# Altium schematic symbol library Inverter_Libraries.SchLib: 43 symbols
Pins are listed as number, name and electrical type; pins without a type are passive.

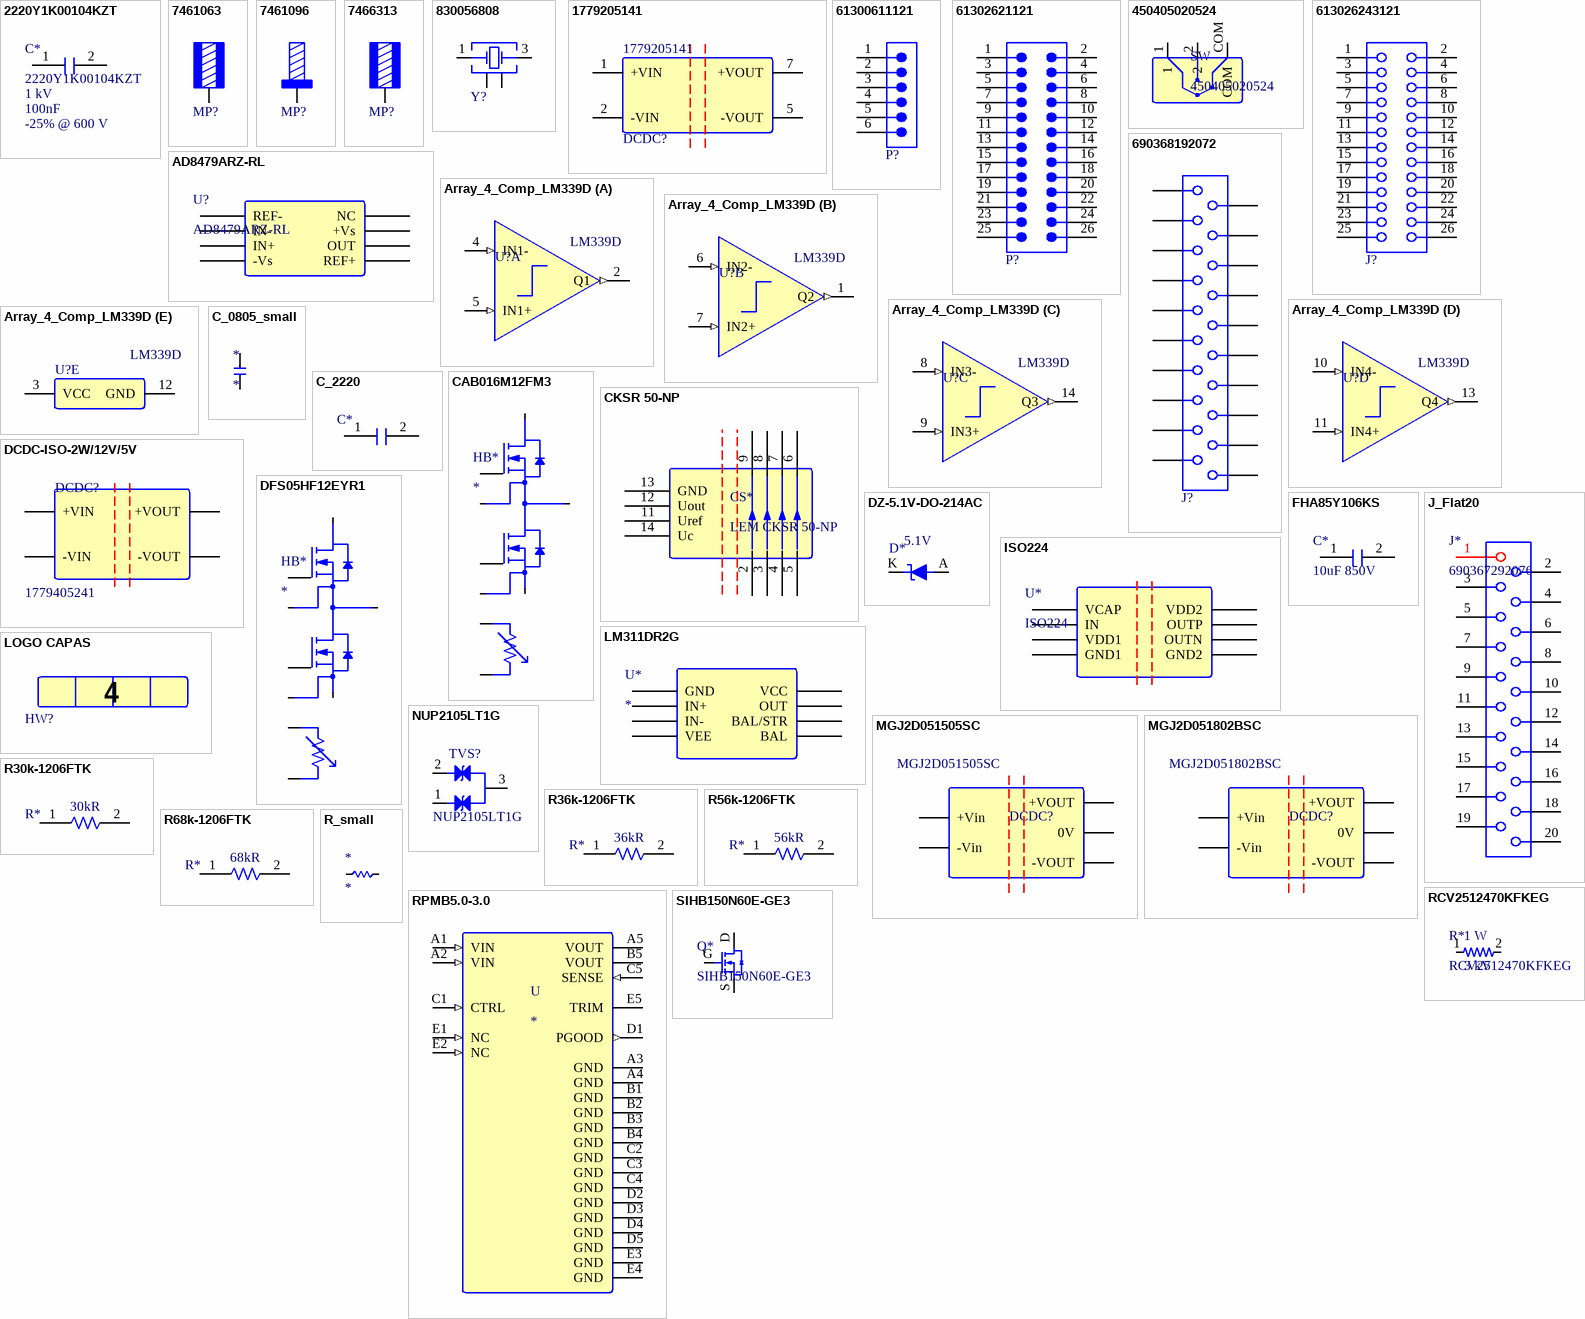
[diagram p0: symbols 2220Y1K00104KZT to SIHB150N60E-GE3]

## 2220Y1K00104KZT
designator C*  value 100nF  DC bias: -25% @ 600 V  Voltage rating: 1 kV
100NF 2220 Case Size 1000V Ceram; Manufacturer: Knowles Syfer; Footprint: 2220; Supplier: Digikey; Supplier Part Number: 1608-2220Y1K00104KZTCT-ND; RoHS: No; Category: Ceramic Capacitors; Stock: 650; Pricing: 1=5,53, 10=4,753, 50=4,3112, 100=3,5595 (USD); Manufacturer Part Number: 2220Y1K00104KZT
footprint CAP_2220
pins: 1, 2

## 7461063
designator MP?, comment M4  (value not drawn)
WP-RATR REDCUBE PRESS-FIT right angled, two-rows, L9W9H14mm, M4, 160A; Manufacturer Part Number: 7461063; Manufacturer: Wurth Elektronik; Surface: Tin; ComponentLink1Description: Website Link; ComponentLink1URL: https://www.we-online.com/redexpert/article/7461063?ad; ComponentLink2Description: Datasheet Link; ComponentLink2URL: https://www.we-online.com/redexpert/spec/7461063?ad; Category: REDCUBE PRESS-FIT; Match Code: WP-RATR; Mount: Press Fit; Operating Temperature Max: 150°C; Operating Temperature Min: -55°C; Packaging: Bulk; Length: 9mm; Width: 9mm; Height: 14mm; Material: Brass; Number of Pins: 8; Rated Current: 160A; Thread Size: M4
footprint 7461063_chemical surface
footprint 7461063_HAL
pins: 1

## 7461096
designator MP?, comment M4 x 6mm  (value not drawn)
WP-SHFU REDCUBE PRESS-FIT with external thread, L7W7H9mm, M4 x 6mm, 130A; Manufacturer Part Number: 7461096; Manufacturer: Wurth Elektronik; Surface: Tin; ComponentLink1Description: Website Link; ComponentLink1URL: https://www.we-online.com/redexpert/article/7461096?ad; ComponentLink2Description: Datasheet Link; ComponentLink2URL: https://www.we-online.com/redexpert/spec/7461096?ad; Category: REDCUBE PRESS-FIT; Match Code: WP-SHFU; Mount: Press Fit; Operating Temperature Max: 150°C; Operating Temperature Min: -55°C; Packaging: Bulk; Length: 7mm; Width: 7mm; Height: 9mm; Material: Brass; Number of Pins: 9; Rated Current: 130A; Thread Length: 6mm; Thread Size: M4
footprint 7461096_HAL
pins: 1

## 7466313
designator MP?, comment M3  (value not drawn)
WP-SMRA REDCUBE SMT Right Angled with pins, M3, 50A; Manufacturer Part Number: 7466313; Manufacturer: Wurth Elektronik; Surface: Tin; ComponentLink1Description: Website Link; ComponentLink1URL: https://www.we-online.com/redexpert/article/7466313?ad; ComponentLink2Description: Datasheet Link; ComponentLink2URL: https://www.we-online.com/redexpert/spec/7466313?ad; Category: REDCUBE SMT; Match Code: WP-SMRA; Mount: Surface Mount; Operating Temperature Max: 150°C; Operating Temperature Min: -55°C; Packaging: Bulk; Height: 7mm; Material: Brass; Rated Current: 50A; Thread Size: M3
footprint 7466313
pins: 1

## 830056808
designator Y?, comment 20MHz  (value not drawn)
WE-XTAL Quartz Crystal, SMT, CFPX-104, 20MHz, +/-20ppm; Manufacturer Part Number: 830056808; Manufacturer: Wurth Elektronik; Frequency Stability: +/-30ppm; Load Capacitance: 18pF; ComponentLink1Description: Website Link; ComponentLink1URL: https://www.we-online.com/redexpert/article/830056808?ad; ComponentLink2Description: Datasheet Link; ComponentLink2URL: https://www.we-online.com/redexpert/spec/830056808?ad; Category: Crystals; Match Code: WE-XTAL; Mount: Surface Mount; Operating Temperature Max: 85°C; Operating Temperature Min: -40°C; Packaging: Tape and Reel; Case/Size Code: CFPX-104; Length: 5mm; Width: 3.2mm; Height: 1mm; Frequency: 20MHz; Frequency Tolerance: +/-20ppm
footprint WE-XTAL_CFPX-104
pins: 1 Crystal, 2 GND & Lid, 3 Crystal, 4 GND & Lid

## 1779205141
designator DCDC?
WPME-FISM Fixed Isolated Module, SIP-7, 5Vin, 5Vout; Manufacturer: Wurth Elektronik; Input Voltage: 5V; Input Voltage Min: 4.5V; Input Voltage Max: 5.5V; Isolation Voltage: 3000V; Output Power: 1W; Manufacturer Part Number: 1779205141; Category: Isolated Converter; Match Code: WPME-FISM; ComponentLink1Description: Website Link; ComponentLink1URL: https://www.we-online.com/redexpert/article/1779205141?ad; ComponentLink2Description: Datasheet Link; ComponentLink2URL: https://www.we-online.com/redexpert/spec/1779205141?ad; Mount: Through Hole; Operating Temperature Max: 105°C; Operating Temperature Min: -40°C; Packaging: Tube; Case/Size Code: SIP-7; Length: 19.65mm; Width: 6mm; Height: 10.16mm; Output Voltage: 5V
footprint 1779205141 (Fixed Isolated Module, SIP-7, body 19.60x7.05mm)
pins: 1 +VIN, 2 -VIN, 5 -VOUT, 7 +VOUT

## 61300611121
designator P?  (value not drawn)
WR-PHD Pin Header, THT, Vertical, pitch 2.54mm, 1 Row, 6P; Manufacturer: Wurth Elektronik; Contact Resistance: 20mOhm; Rated Current: 3A; Working Voltage: 250V; Withstanding Voltage: 500V; Manufacturer Part Number: 61300611121; Category: Board-to-Board Connectors; Match Code: WR-PHD; ComponentLink1Description: Website Link; ComponentLink1URL: https://www.we-online.com/redexpert/article/61300611121?ad; ComponentLink2Description: Datasheet Link; ComponentLink2URL: https://www.we-online.com/redexpert/spec/61300611121?ad; Mount: Through Hole; Operating Temperature Max: 105°C; Operating Temperature Min: -40°C; Packaging: Bag; Gender: Pin Header; Number of Pins: 6; Number of Rows: 1; Orientation: Vertical; Pitch: 2.54mm
footprint 61300611121
pins: 1, 2, 3, 4, 5, 6

## 61302621121
designator P?  (value not drawn)
WR-PHD Pin Header, THT, Vertical, pitch 2.54mm, 2 Row, 26P; Manufacturer: Wurth Elektronik; Contact Resistance: 20mOhm; Rated Current: 3A; Working Voltage: 250V; Withstanding Voltage: 500V; Manufacturer Part Number: 61302621121; Category: Board-to-Board Connectors; Match Code: WR-PHD; ComponentLink1Description: Website Link; ComponentLink1URL: https://www.we-online.com/redexpert/article/61302621121?ad; ComponentLink2Description: Datasheet Link; ComponentLink2URL: https://www.we-online.com/redexpert/spec/61302621121?ad; Mount: Through Hole; Operating Temperature Max: 105°C; Operating Temperature Min: -40°C; Packaging: Bag; Gender: Pin Header; Number of Pins: 26; Number of Rows: 2; Orientation: Vertical; Pitch: 2.54mm
footprint 61302621121
pins: 1, 2, 3, 4, 5, 6, 7, 8, 9, 10, 11, 12, 13, 14, 15, 16, 17, 18, 19, 20, 21, 22, 23, 24, 25, 26

## 450405020524
designator SW
WS-SLSU Mini Slide Switch; Manufacturer: Wurth Electronics; Supplier: Mouser; Supplier Part Number: 710-450405020524; Manufacturer Part Number: 450405020524; RoHS: No; Category: Uncategorized; Stock: 2050; Pricing: 1=1,01, 10=1,01, 50=0,947, 100=0,906, 1000=0,747, 10000=0,746 (USD); ComponentLink1Description: Datasheet; ComponentLink1URL: https://www.we-online.com/components/products/datasheet/450405020524.pdf
footprint 450405020524 (SMT Mini Slide Switch, Same side connection)
pins: 1, 2, COM

## 613026243121
designator J?  (value not drawn)
WR-PHD Socket Header, THT, Angled, pitch 2.54mm, 2 Row, 26P; Manufacturer: Wurth Elektronik; Contact Resistance: 20mΩ; Rated Current: 3A; Working Voltage: 250V; Withstanding Voltage: 500V; ComponentLink1Description: Website Link; ComponentLink1URL: https://www.we-online.com/redexpert/article/613026243121?ad; ComponentLink2Description: Datasheet Link; ComponentLink2URL: https://www.we-online.com/redexpert/spec/613026243121?ad; Manufacturer Part Number: 613026243121; Category: Board-to-Board Connectors; Match Code: WR-PHD; Mount: Through Hole; Operating Temperature Max: 125°C; Operating Temperature Min: -40°C; Packaging: Tray; Gender: Socket Header; Number of Pins: 26; Number of Rows: 2; Orientation: Angled; Pitch: 2.54mm
footprint 613026243121
pins: 1, 2, 3, 4, 5, 6, 7, 8, 9, 10, 11, 12, 13, 14, 15, 16, 17, 18, 19, 20, 21, 22, 23, 24, 25, 26

## 690368192072
designator J?  (value not drawn)
WR-MM Mini Module Connector, Female, THT, with Latch & Polarization, Angled, pitch 2.54mm, 20p; Manufacturer: Wurth Elektronik; Contact Resistance: 10mΩ; Insulation Resistance: 1000MΩ; Rated Current: 1.5A; Working Voltage: 250VAC; Withstanding Voltage: 500VAC; ComponentLink1Description: Website Link; ComponentLink1URL: https://www.we-online.com/redexpert/article/690368192072?ad; ComponentLink2Description: Datasheet Link; ComponentLink2URL: https://www.we-online.com/redexpert/spec/690368192072?ad; Manufacturer Part Number: 690368192072; Category: Board-to-Board Connectors; Match Code: WR-MM; Mount: Through Hole; Operating Temperature Max: 105°C; Operating Temperature Min: -40°C; Packaging: Tube; Length: 30mm; Gender: Female; Number of Pins: 20; Orientation: Angled; Pitch: 2.54mm
footprint 690368192072 (MiniModule Connectors, PCB Type, Female, THT, Angled, 20p)
pins: 1, 2, 3, 4, 5, 6, 7, 8, 9, 10, 11, 12, 13, 14, 15, 16, 17, 18, 19, 20

## AD8479ARZ-RL
designator U?
Operational Amplifier (difference),; Manufacturer: Analog Devices; Package Body Material: Plastic; Throw Configuration: ANALOG CIRCUIT; Neg Supply Voltage-Max (Vsup): -18V; Neg Supply Voltage-Min (Vsup): -2.5V; Neg Supply Voltage-Nom (Vsup): -15V; Channels: 1; Max Supply Voltage: 18V; Min Supply Voltage: 2.5V; Nominal Supply Voltage: 15V; Time @ Peak Reflow Temperature-Max (s): 30s; Supplier: Arrow Electronics; Supplier Part Number: AD8479ARZ-RL; Manufacturer Part Number: AD8479ARZ-RL; RoHS: Yes; Category: Amplifiers - Op Amps, Buffer, Instrumentation; Stock: 5057; Pricing: 1=5,7443, 10=5,6868, 25=5,6304, 100=5,5741, 250=5,5177, 500=5,4625 (USD); Case/Package: SOP; Pins: 8; Package Shape: Rectangular; Terminal Finish: Tin; Min Operating Temperature: -40°C; Max Operating Temperature: 125°C; JESD-609 Code: e3; JESD-30 Code: R-PDSO-G8; Moisture Sensitivity Level: 1; Package Style: SMALL OUTLINEMeter; Peak Reflow Temperature (Cel): 260°C; Surface Mount: Yes; Terminal Form: Gull Wing; Terminal Position: DUAL; Length: 4.9mm; Width: 3.9mm; Height - Seated (Max): 1.75mm; Terminal Pitch: 1.27mm; Temperature Grade: AUTOMOTIVE; Reach SVHC Compliant: Yes; RoHS Compliant: Yes; ComponentLink1URL: https://datasheet.ciiva.com:443/pdfs/VipMasterIC/IC/ANDI/ANDI-S-A0008872860/ANDI-S-A0008872860-1.pdf?src-supplier=IHS+Markit; ComponentLink1Description: https://datasheet.ciiva.com:443/pdfs/VipMasterIC/IC/ANDI/ANDI-S-A0008872860/ANDI-S-A0008872860-1.pdf?src-supplier=IHS+Markit; ComponentLink2URL: https://datasheet.ciiva.com/30008/ad8479-30008102.pdf?src-supplier=Avnet; ComponentLink2Description: https://datasheet.ciiva.com/30008/ad8479-30008102.pdf?src-supplier=Avnet
footprint R_8_ADI
pins: 1 REF-, 2 IN-, 3 IN+, 4 -Vs, 5 REF+, 6 OUT, 7 +Vs, 8 NC

## Array_4_Comp_LM339D
designator U?, comment LM339D
Comparator Quad ±18V/36V 14-Pin SOIC Tube; Manufacturer: Texas Instruments; Number of Channels: 4; Nominal Supply Current: 2mA; Output Current: 20mA; Quiescent Current: 2.5mA; Max Supply Voltage: 30V; Min Supply Voltage: 2V; Min Dual Supply Voltage: 1V; Max Dual Supply Voltage: 15V; Voltage Gain: 106.02dB; Max Supply Current: 500uA; Input Bias Current: 250nA; Output Current per Channel: 6mA; Input Offset Voltage (Vos): 5mV; Response Time: 0.3us; Output Type: TTL; Dual Supply Voltage: 9V; .Creator: DO; Supplier 1: Digi-Key; RoHS: Yes; Category: Amplifiers - Op Amps, Buffer, Instrumentation; Stock 1: 10834; Pricing 1: 1=0,93000, 10=0,83500, 25=0,79240, 100=0,65090, 250=0,60848, 500=0,53774, 1000=0,46725 (USD); Mount: Surface Mount; Case/Package: SOIC; Number of Pins: 14; Contact Plating: Gold; Weight: 0.004318oz; Min Operating Temperature: 0°C; Max Operating Temperature: 70°C; Packaging: Rail/Tube; Package Quantity: 50; Number of Elements: 4; Supply Current: 2mA; Technology: BIPOLAR; Max Input Current: 250nA; Series: LM339; Length: 8.65mm; Width: 3.91mm; Height: 1.58mm; Radiation Hardening: No; REACH SVHC: No SVHC; Lead Free: Lead Free; RoHS Compliant: Yes; ComponentLink1URL: https://datasheet.ciiva.com/15131/getdatasheetpartid-248452-15131099.pdf?src-supplier=Verical; ComponentLink1Description: https://datasheet.ciiva.com/15131/getdatasheetpartid-248452-15131099.pdf?src-supplier=Verical; ComponentLink2URL: https://datasheet.ciiva.com/1483/1831045-1483000.pdf?src-supplier=Element14; ComponentLink2Description: https://datasheet.ciiva.com/1483/1831045-1483000.pdf?src-supplier=Element14; ComponentLink3URL: https://datasheet.ciiva.com/1827/lm139a-1827534.pdf?src-supplier=Digi-Key; ComponentLink3Description: https://datasheet.ciiva.com/1827/lm139a-1827534.pdf?src-supplier=Digi-Key; ComponentLink4URL: https://datasheet.ciiva.com/2970/lm2901-2970484.pdf?src-supplier=Avnet; ComponentLink4Description: https://datasheet.ciiva.com/2970/lm2901-2970484.pdf?src-supplier=Avnet; ComponentLink5URL: https://datasheet.ciiva.com/48712/001010753-da-01-en-ic-quad-diff-comp-lm339d-soic-14-tid-48712470.pdf?src-supplier=Conrad; ComponentLink5Description: https://datasheet.ciiva.com/48712/001010753-da-01-en-ic-quad-diff-comp-lm339d-soic-14-tid-48712470.pdf?src-supplier=Conrad; Supplier Part Number 1: 296-1013-5-ND; ComponentLink6Description: Where buy it; ComponentLink6URL: https://es.rs-online.com/web/p/comparadores/0858411; Manufacturer Part Number: LM339D
footprint Array_4_Amp_LM339D (SOIC, 14-Leads, Body 8,65x3,90mm, Pitch 1,27mm, IPC Medium Density)
part A pins: 2 Q1 (out), 4 IN1- (in), 5 IN1+ (in)
part B pins: 1 Q2 (out), 6 IN2- (in), 7 IN2+ (in)
part C pins: 8 IN3- (in), 9 IN3+ (in), 14 Q3 (out)
part D pins: 10 IN4- (in), 11 IN4+ (in), 13 Q4 (out)
part E pins: 3 VCC (power), 12 GND (power)

## C_0805_small
designator *
footprint C0805FNPC-R
pins: 1, 2

## C_2220
designator C*  (value not drawn)
Voltage rating: 1.2 kV; Footprint: 2220
footprint CAP_2220
pins: 1, 2

## CAB016M12FM3
designator HB*
1200V/16mΩ Half Bridge SiC MOSFET Module; Blocking voltage: 1200 V; Rds(on): 5.5 mOhm .. 28 mOhm; Maximum junction temperature: 175 °C; Isolation voltage: 3.4 kV; Maximum VGSS: +19 V / - 4V; Maximum IDS-ISD: 89 A; NTC resistance @25 ºC: 5 kOhm; NTC B-value @50 ºC: 3375 K; VGS(th): 2.8 V .. 4.8 V; QG: 236 nC; RGint: 2.4 Ohm; Rth(j-c): 0.543 K/W; Vf_diode: 4.9 V .. 5.0 V; ComponentLink1Description: Datasheet; ComponentLink1URL: https://assets.wolfspeed.com/uploads/2023/05/Wolfspeed_CAB016M12FM3_data_sheet.pdf
footprint DFS05HF12EYR1 (1200V/5.5mOhm Half Bridge SiC MOSFET Module)
pins: 1 AC, 2 S2, 3 G2, 4 DC+, 5 DC-, 6 G1, 7 S1, 8 T1, 9 T2

## CKSR 50-NP
designator CS*, comment LEM CKSR 50-NP
Sensor Current Flux 50A AC/DC; Supplier 1: Rs; Manufacturer 1: LEM; Manufacturer Part Number 1: CKSR50-NP; RoHS: Yes; Category: Current Sensors; Stock 1: 84; Pricing 1: 1=15,8, 5=15,33, 10=14,65 (EUR); ComponentLink1URL: https://datasheet.ciiva.com/2812/cksrseries-2812726.pdf?src-supplier=Digi-Key; ComponentLink1Description: https://datasheet.ciiva.com/2812/cksrseries-2812726.pdf?src-supplier=Digi-Key; ComponentLink2URL: https://datasheet.ciiva.com/7992/1639868-7992216.pdf?src-supplier=Element14; ComponentLink2Description: https://datasheet.ciiva.com/7992/1639868-7992216.pdf?src-supplier=Element14; Supplier Part Number 1: 6668214
footprint CKSR 50-NP
pins: 2, 3, 4, 5, 6, 7, 8, 9, 11 Uref, 12 Uout, 13 GND, 14 Uc

## DCDC-ISO-2W/12V/5V
designator DCDC?, comment 1779405241
WPME-FISM Fixed Isolated Module, SIP-7, 10.8-13.2Vin, 5Vout; Manufacturer: Wurth Elektronik; Input Voltage Max: 13.2V; Input Voltage Min: 10.8V; Input Voltage: 12V; Output Voltage: 5V; Isolation Voltage: 4kV; ComponentLink2Description: Datasheet; Height: 10.16mm; Packaging: Tube; Width: 7.05mm; ComponentLink2URL: https://www.we-online.com/catalog/datasheet/1779405141.pdf; Length: 19.65mm; Manufacturer Part Number: 1779405241; ComponentLink1Description: Manufacturer Link; Operating Temperature Max: 105°C; Mount: THT; ComponentLink1URL: http://www.we-online.de; Case/Size Code: SIP-7; Operating Temperature Min: -40°C; Component Type: MagI3C FISM
footprint DCDC2W-ISO/1779405X41 (Isolated Power Module, SIP7, body 19.65x7.05mm)
pins: 1 +VIN, 2 -VIN, 5 -VOUT, 7 +VOUT

## DFS05HF12EYR1
designator HB*
1200V/5.5mΩ Half Bridge SiC MOSFET Module; Blocking voltage: 1200 V; Rds(on): 5.5 mOhm .. 13 mOhm; Maximum junction temperature: 175 °C; Isolation voltage: 3.4 kV; Maximum VGSS: +21 V / -2 V; Maximum IDS-ISD: 150 A; NTC resistance @25 ºC: 5 kOhm; NTC B-value @50 ºC: 3375 K; VGS(th): 2.8 V .. 4.8 V; QG: 520 nC; RGint: 1.9 Ohm; Rth(j-c): 0.12 K/W; Vf_diode: 3.3 V .. 4.0 V; ComponentLink1Description: Datasheet; ComponentLink1URL: https://www.leapers-power.com/action/download?file=/web/uploads/file/20230309/E66B0Y1w3x716fyKzgl84X9Kg38sCV40.pdf
footprint DFS05HF12EYR1 (1200V/5.5mOhm Half Bridge SiC MOSFET Module)
pins: 1 AC, 2 S2, 3 G2, 4 DC+, 5 DC-, 6 G1, 7 S1, 8 T1, 9 T2

## DZ-5.1V-DO-214AC
designator D*, comment Reference Voltage-Nom: 5.1V  (hidden comment: BZG05C5V1-E3-TR)
Zener Diode, 5.1V V(Z), 5.88%, 1.25W, Silicon, Unidirectional, DO-214AC; Manufacturer: Vishay; Manufacturer Part Number: BZG05C5V1-M3-08; Package Body Material: Plastic; Additional Feature: HIGH RELIABILITY; Number of Elements: 1; Test Current: 45mA; Time @ Peak Reflow Temperature-Max (s): 30s; Supplier: Mouser; Supplier Part Number: 78-BZG05C5V1-M3-08; RoHS: Yes; Category: Zener Diodes; Stock: 28077; Pricing: 1=0,38, 10=0,3, 50=0,3, 100=0,179, 1000=0,113, 10000=0,089 (USD); Pins: 2; Diode Element Material: SILICON; Package Shape: Rectangular; Terminal Finish: Tin; Max Operating Temperature: 150°C; JESD-609 Code: e3; Polarity: Unidirectional; Diode Type: ZENER; JESD-30 Code: R-PDSO-C2; Moisture Sensitivity Level: 1; Package Style: SMALL OUTLINEMeter; Peak Reflow Temperature (Cel): 260°C; Max Power Dissipation: 1.25W; Surface Mount: Yes; Technology: ZENER; Terminal Form: C BEND; Terminal Position: DUAL; Voltage Tol-Max: 5.88%; JEDEC-95 Code: DO-214AC; RoHS Compliant: Yes; Reach SVHC Compliant: No; ComponentLink1URL: https://datasheet.ciiva.com:443/pdfs/VipMasterIC/IC/VISH/VISH-S-A0008998108/VISH-S-A0008998108-1.pdf?src-supplier=IHS+Markit; ComponentLink1Description: https://datasheet.ciiva.com:443/pdfs/VipMasterIC/IC/VISH/VISH-S-A0008998108/VISH-S-A0008998108-1.pdf?src-supplier=IHS+Markit; ComponentLink2URL: http://www.vishay.com/docs/86135/bzg05c-m-series.pdf?src-supplier=Digikey; ComponentLink2Description: http://www.vishay.com/docs/86135/bzg05c-m-series.pdf?src-supplier=Digikey
footprint DZ-6.2V-DO-214AC (TSOP, 2-Leads, Body 1,25x1,70mm, Pitch 1,27mm, IPC Low Density)
pins: A, K

## FHA85Y106KS
designator C*, comment 10uF 850V
High Temperature Film Capacitor for Automotive Application
footprint FHA85Y106KS (850V 10uF High Temperature Film Capacitor for Automotive Application)
pins: 1, 2

## ISO224
designator U*
Reinforced isolated amplifier for voltage sensing with ±12-V input 8-SOIC -55 to 125; Manufacturer 1: Texas Instruments; Manufacturer Part Number 1: ISO224ADWVR; Supplier 1: Mouser; RoHS: Yes; Category: Amplifiers - Op Amps, Buffer, Instrumentation; Stock 1: 3377; Pricing 1: 1=13,32, 10=12,25, 50=11,74, 100=10,35, 1000=8,44, 10000=8,44 (USD); ComponentLink1URL: https://www.ti.com/lit/ds/symlink/iso224.pdf?ts=1702215020753&ref_url=https%253A%252F%252Fwww.ti.com%252Fproduct%252Fes-mx%252FISO224; ComponentLink1Description: Datasheet; Supplier Part Number 1: 595-ISO224ADWVR
footprint ISO224
pins: 1 VCAP, 2 IN, 3 VDD1, 4 GND1, 5 GND2, 6 OUTN, 7 OUTP, 8 VDD2

## J_Flat20
designator J*, comment 690367292076
6903 Series 1.27mm; 2.54mm Pitch 20 Way2 Row Straight PCB Socket; Surface Mount; Manufacturer 1: Wurth Electronics; Supplier 1: Rs; Manufacturer Part Number 1: 690367292076; RoHS: Yes; Category: Connectors; Stock 1: 2285; Pricing 1: 5=2,326, 50=2,162, 250=2, 500=1,742, 1000=1,582 (EUR); ComponentLink1URL: https://datasheet.ciiva.com/25617/0900766b811917f0-25617511.pdf?src-supplier=Rs; ComponentLink1Description: https://datasheet.ciiva.com/25617/0900766b811917f0-25617511.pdf?src-supplier=Rs; ComponentLink2URL: https://datasheet.ciiva.com/29130/69036729xx76-29130464.pdf?src-supplier=Digi-Key; ComponentLink2Description: https://datasheet.ciiva.com/29130/69036729xx76-29130464.pdf?src-supplier=Digi-Key; Supplier Part Number 1: 7718102
footprint 690367292076 (MiniModule Connectors, PCB Type, Female, SMT, Vertical, 20p)
pins: 1, 2, 3, 4, 5, 6, 7, 8, 9, 10, 11, 12, 13, 14, 15, 16, 17, 18, 19, 20

## LM311DR2G
designator U*
LM Series 36 V 300 nA Surface Mount Single Comparator - SOIC-8; Manufacturer 1: ON Semiconductor; Manufacturer Part Number 1: LM311DR2G; Supplier 1: Future Electronics; RoHS: Yes; Category: Comparators; Stock 1: 35000; Pricing 1: 2500=0,145, 5000=0,142, 10000=0,139, 12500=0,138, 37500=0,133 (USD); Supplier Part Number 1: 9254327
footprint LM311
pins: 1 GND, 2 IN+, 3 IN-, 4 VEE, 5 BAL, 6 BAL/STR, 7 OUT, 8 VCC

## LOGO CAPAS
designator HW?, comment LOGO CAPAS (4)  (value not drawn)
Logo 4 capas; Id: 0074; Observations: Layers; Checked: False; Type: Logos; Supplier 1: Farnell; Supplier 2: Mouser; Supplier 3: RS; Supplier 4: Digi-Key; Author: Enric; Date: 22/06/2012
footprint LOGO_LAYERS_4
text: 4 Layers

## MGJ2D051505SC
designator DCDC?, comment Manufacturer Part Number: MGJ2D051505SC  (hidden comment: MGJ6-series)
DC-DC Regulated Power Supply Module, 2 Output, 2W, Hybrid; Manufacturer: Murata; Max Supply Voltage: 5.5V; Min Input Voltage: 4.5V; Nominal Supply Voltage: 5V; Load Regulation-Max: 7%; Channels: 1; Number of Outputs: 2; Nominal Output Voltage: 15V; Surface Mount: No; Trim/Adjustable Output: No; Supplier: Rs; Supplier Part Number: 8163493; RoHS: Yes; Category: Board Mount Modules; Stock: 3; Pricing: 1=7,73, 5=7,49, 10=7,27, 25=7,03, 50=6,81 (EUR); Pins: 5; Package Shape: Rectangular; Min Operating Temperature: -40°C; Max Operating Temperature: 95°C; Throw Configuration: DC-DC REGULATED POWER SUPPLY MODULE; Package Style: MICROELECTRONIC ASSEMBLYMeter; Technology: HYBRID; Terminal Form: Through Hole; Terminal Position: SINGLE; Max Output Power: 2W; Length: 19.65mm; Width: 9.95mm; Height - Seated (Max): 12.65mm; Terminal Pitch: 2.54mm; Temperature Grade: INDUSTRIAL; Reach SVHC Compliant: Yes; RoHS Compliant: Yes; ComponentLink1URL: https://datasheet.ciiva.com:443/pdfs/VipMasterIC/IC/MUPS/MUPS-S-A0006602125/MUPS-S-A0006602125-1.pdf?src-supplier=IHS+Markit; ComponentLink1Description: https://datasheet.ciiva.com:443/pdfs/VipMasterIC/IC/MUPS/MUPS-S-A0006602125/MUPS-S-A0006602125-1.pdf?src-supplier=IHS+Markit; ComponentLink2URL: https://datasheet.ciiva.com/48668/kdc-mgj2-48668906.pdf?src-supplier=Avnet; ComponentLink2Description: https://datasheet.ciiva.com/48668/kdc-mgj2-48668906.pdf?src-supplier=Avnet
footprint MGJ2D051802BSC (Footprint not found)
pins: 1 +Vin, 2 -Vin, 5 -VOUT, 6 0V, 7 +VOUT

## MGJ2D051802BSC
designator DCDC?, comment Manufacturer Part Number: MGJ2D051802BSC  (hidden comment: MGJ6-series)
Isolated DC/DC Converters - Through Hole DC/DC 2W TH 5-18/2V 5.4KV SIP; Manufacturer 1: Murata; Supplier 1: Avnet; Manufacturer Part Number 1: MGJ2D051802BSC; RoHS: No; Category: Board Mount Modules; Stock 1: 25; Pricing 1: 25=5,1192, 30=4,9896, 60=4,86, 130=4,7304, 250=4,6008, 1300=4,4712, 2500=4,3416 (USD); Supplier Part Number 1: MGJ2D051802BSC
footprint MGJ2D051802BSC (Footprint not found)
pins: 1 +Vin, 2 -Vin, 5 -VOUT, 6 0V, 7 +VOUT

## NUP2105LT1G
designator TVS?, comment Model: NUP2105LT1G  (hidden comment: Diode 4D)
Protection ESD CAN/SOT-23; Manufacturer: ON Semiconductor; Id: 0007; Junction_temperature: 150 ºC; Checked: False; Manufacturer_Part_Number: NUP2105LT1G; Package: SOT-23; Type: Protection ESD CAN; Supplier 1: Farnell; Supplier 2: Mouser; Supplier 3: RS; Supplier Part Number 3: 464-255; Obs: Protection ESD CAN; Author: Enric; Date: 10/05/2011; Supplier Part Number 1: 2334359; Supplier Part Number 2: 863-NUP2105LT1G
footprint SOT95P230X110-3M
pins: 1, 2, 3

## R30k-1206FTK
designator R*, comment value 30kR  (hidden comment: CR1206-JW-303ELF)
Fixed Resistor, Metal Glaze/thick Film, 0.25W, 30000ohm, 200V, 5% +/-Tol, 200ppm/Cel, Surface Mount, 1206; Manufacturer: Bourns; Power: 250mW; Rated Temperature: 70°C; Temperature Coefficient: 200ppm/°C; Package Height: 0.6mm; Package Length: 3.2mm; Package Width: 1.6mm; Supplier: Digikey; Supplier Part Number: 118-CR1206-JW-303ELFCT-ND; Manufacturer Part Number: CR1206-JW-303ELF; RoHS: Yes; Category: Chip SMD Resistors; Stock: 24284; Pricing: 1=0,1, 10=0,04, 50=0,0258, 100=0,0217, 500=0,01514, 1000=0,01317 (USD); Mounting Technology: Surface Mount; Pins: 2; Package Shape: Rectangular; Case/Package: 1206; Terminal Finish: Nickel; Min Operating Temperature: -55°C; Max Operating Temperature: 155°C; Tolerance: 5%; JESD-609 Code: e3; Resistor Type: FIXED RESISTOR; Construction: Chip; Package Style: SMTMeter; Packaging: Tape and Reel; Technology: RUTHENIUM OXIDE; Termination: Wraparound; Working Voltage: 200V; Reach SVHC Compliant: Yes; RoHS Compliant: Yes; ComponentLink1URL: https://datasheet.ciiva.com:443/pdfs/VipMasterIC/IC/BOUR/BOUR-S-A0009069624/BOUR-S-A0009069624-1.pdf?src-supplier=IHS+Markit; ComponentLink1Description: https://datasheet.ciiva.com:443/pdfs/VipMasterIC/IC/BOUR/BOUR-S-A0009069624/BOUR-S-A0009069624-1.pdf?src-supplier=IHS+Markit; ComponentLink2URL: https://datasheet.ciiva.com/9121/chpreztr-9121669.pdf?src-supplier=Avnet; ComponentLink2Description: https://datasheet.ciiva.com/9121/chpreztr-9121669.pdf?src-supplier=Avnet; ComponentLink3URL: https://datasheet.ciiva.com/5571/chpreztr-5571228.pdf?src-supplier=Mouser; ComponentLink3Description: https://datasheet.ciiva.com/5571/chpreztr-5571228.pdf?src-supplier=Mouser
footprint R1206FTK-R (Chip Resistor, 2-Leads, Body 3,15x1,60mm, IPC Medium Density)
pins: 1, 2

## R36k-1206FTK
designator R*, comment value 36kR  (hidden comment: CR1206-JW-363ELF)
Fixed Resistor, Metal Glaze/thick Film, 0.25W, 36000ohm, 200V, 5% +/-Tol, 200ppm/Cel, Surface Mount, 1206; Manufacturer: Bourns; Power: 250mW; Rated Temperature: 70°C; Temperature Coefficient: 200ppm/°C; Package Height: 0.6mm; Package Length: 3.2mm; Package Width: 1.6mm; Supplier: Digikey; Supplier Part Number: CR1206-JW-363ELF-ND; Manufacturer Part Number: CR1206-JW-363ELF; RoHS: Yes; Category: Chip SMD Resistors; Pricing: 25000=0,00763 (USD); Mounting Technology: Surface Mount; Pins: 2; Package Shape: Rectangular; Case/Package: 1206; Terminal Finish: Nickel; Min Operating Temperature: -55°C; Max Operating Temperature: 155°C; Tolerance: 5%; JESD-609 Code: e3; Resistor Type: FIXED RESISTOR; Construction: Chip; Package Style: SMTMeter; Packaging: Tape and Reel; Technology: RUTHENIUM OXIDE; Termination: Wraparound; Working Voltage: 200V; Reach SVHC Compliant: Yes; RoHS Compliant: Yes; ComponentLink1URL: https://datasheet.ciiva.com:443/pdfs/VipMasterIC/IC/BOUR/BOUR-S-A0009069624/BOUR-S-A0009069624-1.pdf?src-supplier=IHS+Markit; ComponentLink1Description: https://datasheet.ciiva.com:443/pdfs/VipMasterIC/IC/BOUR/BOUR-S-A0009069624/BOUR-S-A0009069624-1.pdf?src-supplier=IHS+Markit; ComponentLink2URL: https://datasheet.ciiva.com/9121/chpreztr-9121515.pdf?src-supplier=Avnet; ComponentLink2Description: https://datasheet.ciiva.com/9121/chpreztr-9121515.pdf?src-supplier=Avnet; ComponentLink3URL: https://datasheet.ciiva.com/5547/chpreztr-5547766.pdf?src-supplier=Mouser; ComponentLink3Description: https://datasheet.ciiva.com/5547/chpreztr-5547766.pdf?src-supplier=Mouser
footprint R1206FTK-R (Chip Resistor, 2-Leads, Body 3,15x1,60mm, IPC Medium Density)
pins: 1, 2

## R56k-1206FTK
designator R*, comment value 56kR  (hidden comment: CR1206-JW-563ELF)
Fixed Resistor, Metal Glaze/thick Film, 0.25W, 56000ohm, 200V, 5% +/-Tol, 200ppm/Cel, Surface Mount, 1206; Manufacturer: Bourns; Power: 250mW; Rated Temperature: 70°C; Temperature Coefficient: 200ppm/°C; Package Height: 0.6mm; Package Length: 3.2mm; Package Width: 1.6mm; Supplier: Digikey; Supplier Part Number: 118-CR1206-JW-563ELFCT-ND; Manufacturer Part Number: CR1206-JW-563ELF; RoHS: Yes; Category: Chip SMD Resistors; Stock: 24380; Pricing: 1=0,1, 10=0,04, 50=0,0258, 100=0,0217, 500=0,01514, 1000=0,01317 (USD); Mounting Technology: Surface Mount; Pins: 2; Package Shape: Rectangular; Case/Package: 1206; Terminal Finish: Nickel; Min Operating Temperature: -55°C; Max Operating Temperature: 155°C; Tolerance: 5%; JESD-609 Code: e3; Resistor Type: FIXED RESISTOR; Construction: Chip; Package Style: SMTMeter; Packaging: Tape and Reel; Technology: RUTHENIUM OXIDE; Termination: Wraparound; Working Voltage: 200V; Reach SVHC Compliant: Yes; RoHS Compliant: Yes; ComponentLink1URL: https://datasheet.ciiva.com:443/pdfs/VipMasterIC/IC/BOUR/BOUR-S-A0009069624/BOUR-S-A0009069624-1.pdf?src-supplier=IHS+Markit; ComponentLink1Description: https://datasheet.ciiva.com:443/pdfs/VipMasterIC/IC/BOUR/BOUR-S-A0009069624/BOUR-S-A0009069624-1.pdf?src-supplier=IHS+Markit; ComponentLink2URL: https://datasheet.ciiva.com/5546/chpreztr-5546909.pdf?src-supplier=Mouser; ComponentLink2Description: https://datasheet.ciiva.com/5546/chpreztr-5546909.pdf?src-supplier=Mouser; ComponentLink3URL: https://datasheet.ciiva.com/9121/chpreztr-9121177.pdf?src-supplier=Avnet; ComponentLink3Description: https://datasheet.ciiva.com/9121/chpreztr-9121177.pdf?src-supplier=Avnet
footprint R1206FTK-R (Chip Resistor, 2-Leads, Body 3,15x1,60mm, IPC Medium Density)
pins: 1, 2

## R68k-1206FTK
designator R*, comment value 68kR  (hidden comment: CR1206-JW-683ELF)
Fixed Resistor, Metal Glaze/thick Film, 0.25W, 68000ohm, 200V, 5% +/-Tol, 200ppm/Cel, Surface Mount, 1206; Manufacturer: Bourns; Power: 250mW; Rated Temperature: 70°C; Temperature Coefficient: 200ppm/°C; Package Height: 0.6mm; Package Length: 3.2mm; Package Width: 1.6mm; Supplier: Digikey; Supplier Part Number: 118-CR1206-JW-683ELFCT-ND; Manufacturer Part Number: CR1206-JW-683ELF; RoHS: Yes; Category: Chip SMD Resistors; Stock: 24770; Pricing: 1=0,1, 10=0,04, 50=0,0258, 100=0,0217, 500=0,01514, 1000=0,01317 (USD); Mounting Technology: Surface Mount; Pins: 2; Package Shape: Rectangular; Case/Package: 1206; Terminal Finish: Nickel; Min Operating Temperature: -55°C; Max Operating Temperature: 155°C; Tolerance: 5%; JESD-609 Code: e3; Resistor Type: FIXED RESISTOR; Construction: Chip; Package Style: SMTMeter; Packaging: Tape and Reel; Technology: RUTHENIUM OXIDE; Termination: Wraparound; Working Voltage: 200V; Reach SVHC Compliant: Yes; RoHS Compliant: Yes; ComponentLink1URL: https://datasheet.ciiva.com:443/pdfs/VipMasterIC/IC/BOUR/BOUR-S-A0009069624/BOUR-S-A0009069624-1.pdf?src-supplier=IHS+Markit; ComponentLink1Description: https://datasheet.ciiva.com:443/pdfs/VipMasterIC/IC/BOUR/BOUR-S-A0009069624/BOUR-S-A0009069624-1.pdf?src-supplier=IHS+Markit; ComponentLink2URL: https://datasheet.ciiva.com/9121/chpreztr-9121052.pdf?src-supplier=Avnet; ComponentLink2Description: https://datasheet.ciiva.com/9121/chpreztr-9121052.pdf?src-supplier=Avnet
footprint R1206FTK-R (Chip Resistor, 2-Leads, Body 3,15x1,60mm, IPC Medium Density)
pins: 1, 2

## R_small
designator *
footprint R1206FTK-W (Chip Resistor, 2-Leads, Body 3,15x1,60mm, IPC Medium Density)
pins: 1, 2

## RCV2512470KFKEG
designator R*  Power rating: 1 W  Maximum voltage: 3 kV
RCV2512 100 470K 1% E67 E3; Manufacturer: Vishay Dale; Supplier: Mouser; Supplier Part Number: 71-RCV2512470KFKEG; Manufacturer Part Number: RCV2512470KFKEG; RoHS: No; Category: Chip SMD Resistors; Stock: 1093; Pricing: 1=0,89, 10=0,732, 50=0,732, 100=0,54, 1000=0,317, 10000=0,287 (USD)
footprint R2512FTK
pins: 1, 2

## RPMB5.0-3.0
designator U
Non-Isolated PoL Module DC DC Converter 1 Output 5V 3A 5.5V - 36V Input; MP: RPMB5.0-3.0; MF: Recom Power; Digi-Key_Part_Number: 945-RPMB5.0-3.0CT-ND; Value: *; SnapEDA_Link: https://www.snapeda.com/parts/RPMB5.0-3.0/Recom%20Power/view-part/4614226/?ref=snap; Digi-Key_Purchase_URL: https://www.digikey.com/product-detail/en/recom-power/RPMB5.0-3.0/945-RPMB5.0-3.0CT-ND/11307132?utm_source=snapeda&utm_medium=aggregator&utm_campaign=symbol; Package: BLGA-25 Recom Power
footprint LGA25S229P5X5_1219X1219X400
pins: A1 VIN (in), A2 VIN (in), A3 GND (power), A4 GND (power), A5 VOUT, B1 GND (power), B2 GND (power), B3 GND (power), B4 GND (power), B5 VOUT, C1 CTRL (in), C2 GND (power), C3 GND (power), C4 GND (power), C5 SENSE (in), D1 PGOOD (out), D2 GND (power), D3 GND (power), D4 GND (power), D5 GND (power), E1 NC (in), E2 NC (in), E3 GND (power), E4 GND (power), E5 TRIM

## SIHB150N60E-GE3
designator Q*
Mosfet, N-ch, 600V, 22A, TO-263 Rohs Compliant: Yes; Manufacturer 1: Vishay; Vgs(typ): 10 V; Supplier 1: Digi-Key; Stock 1: 1000; Pricing 1: 1=3,670000, 10=3,081000, 100=2,492500, 500=2,215540 (USD); Supplier Part Number 1: 742-SIHB150N60E-GE3CT-ND; Vds(max): 600 V; Ids(max): 22 A; Package: TO-263; Manufacturer Part Number 1: SIHB150N60E-GE3
footprint SIHB150N60E-GE3 (TO-263)
pins: D, G, S

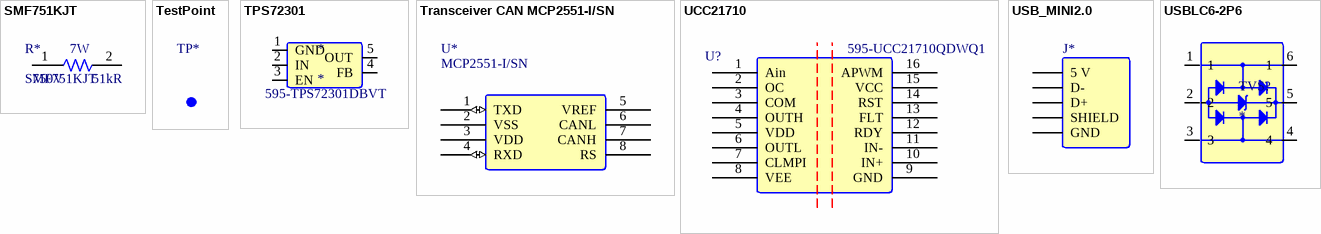
[diagram p1: symbols SMF751KJT to USBLC6-2P6]

## SMF751KJT
designator R*  value 51kR  Operating Supply Voltage: 750V  Power Rating: 7W
Resistor Metal Film 51K Ohm 5% 7W ±100ppm/°C Molded SMD T/R; Manufacturer 1: TE Connectivity; Supplier 1: Digi-Key; Manufacturer Part Number 1: SMF751KJT; RoHS: Yes; Category: Chip SMD Resistors; Stock 1: 1156; Pricing 1: 1=2,33, 10=1,964, 25=1,9192, 50=1,8062, 100=1,4977 (USD); Supplier Part Number 1: 1712-SMF751KJTCT-ND
footprint SMF751KJT
pins: 1, 2

## TestPoint
designator TP*  (value not drawn)  (no BOM)
Test Point 1x1 mm; .Creator: GP; Category: TestPoint; .PCBcheck: GP; .SCHcheck: GP
footprint TestPoint
pins: 1 TP

## TPS72301
designator *  Supplier Part Number 1: 595-TPS72301DBVT
200-mA, negative, adjustable low-dropout voltage regulator with enable 5-SOT-23 -40 to 125; Manufacturer 1: Texas Instruments; Manufacturer Part Number 1: TPS72301DBVT; Supplier 1: Mouser; RoHS: Yes; Category: Voltage Regulators - Linear; Stock 1: 23139; Pricing 1: 1=3,59, 10=3,05, 50=3,05, 100=2,65, 1000=1,9, 10000=1,81 (USD); ComponentLink1URL: https://datasheet.ciiva.com/14280/tps72325-14280848.pdf?src-supplier=Avnet; ComponentLink1Description: https://datasheet.ciiva.com/14280/tps72325-14280848.pdf?src-supplier=Avnet; ComponentLink2URL: https://datasheet.ciiva.com/34301/1117366-34301992.pdf?src-supplier=Jameco; ComponentLink2Description: https://datasheet.ciiva.com/34301/1117366-34301992.pdf?src-supplier=Jameco; ComponentLink3URL: https://datasheet.ciiva.com/46395/1882773-46395194.pdf?src-supplier=Element14; ComponentLink3Description: https://datasheet.ciiva.com/46395/1882773-46395194.pdf?src-supplier=Element14; ComponentLink4URL: https://datasheet.ciiva.com/46397/1882773-46397514.pdf?src-supplier=Element14; ComponentLink4Description: https://datasheet.ciiva.com/46397/1882773-46397514.pdf?src-supplier=Element14; ComponentLink5URL: https://datasheet.ciiva.com/7993/1854117-7993002.pdf?src-supplier=Element14; ComponentLink5Description: https://datasheet.ciiva.com/7993/1854117-7993002.pdf?src-supplier=Element14
footprint DBV0005A
footprint DBV0005A
pins: 1 GND, 2 IN, 3 EN, 4 FB, 5 OUT

## Transceiver CAN MCP2551-I/SN
designator U*, comment MCP2551-I/SN
High-Speed CAN Transceiver; Supplier 1: Arrow Electronics; Supplier Part Number 1: MCP2551-I/SN
footprint MCHP-SN8_V (SOIC, 8-Leads, Body 4.9x3.9mm, Pitch 1.27mm)
pins: 1 TXD (io), 2 VSS, 3 VDD, 4 RXD (io), 5 VREF, 6 CANL, 7 CANH, 8 RS

## UCC21710
designator U?  Supplier Part Number 1: 595-UCC21710QDWQ1
Automotive ±10-A 5.7kV RMS single channel isolated gate driver for SiC/IGBT 16-SOIC -40 to 125; Manufacturer 1: Texas Instruments; Manufacturer Part Number 1: UCC21710QDWQ1; Supplier 1: Mouser; RoHS: Yes; Category: Gate Drivers; Stock 1: 3113; Pricing 1: 1=9,15, 10=8,27, 50=7,89, 100=7,89, 1000=5,3, 10000=5,3 (USD); ComponentLink1URL: http://www.ti.com/general/docs/suppproductinfo.tsp?distId=10&amp;gotoUrl=http%3A%2F%2Fwww.ti.com%2Flit%2Fgpn%2Fucc21710-q1&src-supplier=Digi-Key; ComponentLink1Description: http://www.ti.com/general/docs/suppproductinfo.tsp?distId=10&amp;gotoUrl=http%3A%2F%2Fwww.ti.com%2Flit%2Fgpn%2Fucc21710-q1&src-supplier=Digi-Key
footprint FP-DW0016B-IPC_A
pins: 1 Ain, 2 OC, 3 COM, 4 OUTH, 5 VDD, 6 OUTL, 7 CLMPI, 8 VEE, 9 GND, 10 IN+, 11 IN-, 12 RDY, 13 FLT, 14 RST, 15 VCC, 16 APWM

## USB_MINI2.0
designator J*, comment 629105150521  (value not drawn)
Horizontal SMT Type B Version 2.0 MicroUSB Connector Socket; 30 V ac; 3A WR-COM; Manufacturer: Wurth Electronics; Connector Type: USB; Number of Contacts: 5; Gender: Receptacle; USB Standard: USB 2.0; .Creator: GP; Supplier 1: Digi-Key; Manufacturer Part Number: 629105150521; RoHS: Yes; Category: USB Connectors; Stock 1: 815; Pricing 1: 550=1,38500 (USD); Mount: Surface Mount,Horizontal; Contact Material: Copper Alloy; Contact Plating: Gold; Packaging: Tape and Reel; Termination: SMD/SMT; Orientation: Right Angle; Features: Shielded; REACH SVHC: Unknown; Lead Free: Lead Free; RoHS Compliant: Yes; ComponentLink1URL: https://datasheet.ciiva.com/48416/629105150521-48416058.pdf?src-supplier=Distrelec; ComponentLink1Description: https://datasheet.ciiva.com/48416/629105150521-48416058.pdf?src-supplier=Distrelec; Supplier Part Number 1: 732-5960-2-ND
footprint USB_MINI2.0
pins: 1 5 V (power), 2 D-, 3 D+, 4 SHIELD, 5 GND

## USBLC6-2P6
designator TVS?
Trans Voltage Suppressor Diode, 5V V(RWM), Unidirectional, 1 Element, Silicon; Manufacturer: STMicroelectronics; Manufacturer Part Number: USBLC6-2P6; Package Body Material: Plastic; Additional Feature: HIGH RELIABILITY; Min Breakdown Voltage: 6V; Clamping Voltage-Max: 17V; Number of Elements: 1; Reference Standard: IEC-61000-4-2; Qualification Status: Not Qualified; Supplier: Mouser; Supplier Part Number: 511-USBLC6-2P6; RoHS: Yes; Category: TVS Diodes; Stock: 169002; Pricing: 1=0,59, 10=0,514, 50=0,514, 100=0,356, 1000=0,253, 10000=0,197 (USD); Pins: 6; Diode Element Material: SILICON; Package Shape: Rectangular; Terminal Finish: Tin; Min Operating Temperature: -40°C; Max Operating Temperature: 125°C; JESD-609 Code: e3; Polarity: Unidirectional; Diode Type: TRANS VOLTAGE SUPPRESSOR; JESD-30 Code: R-PDSO-F6; Moisture Sensitivity Level: 1; Package Style: SMALL OUTLINEMeter; Peak Reflow Temperature (Cel): 260°C; Rep Pk Reverse Voltage-Max: 5V; Surface Mount: Yes; Technology: AVALANCHE; Terminal Form: Flat; Terminal Position: DUAL; Reach SVHC Compliant: Yes; RoHS Compliant: Yes; ComponentLink1URL: https://datasheet.ciiva.com:443/pdfs/VipMasterIC/IC/SGST/SGSTS30336/SGSTS30336-1.pdf?src-supplier=IHS+Markit; ComponentLink1Description: https://datasheet.ciiva.com:443/pdfs/VipMasterIC/IC/SGST/SGSTS30336/SGSTS30336-1.pdf?src-supplier=IHS+Markit; ComponentLink2URL: https://datasheet.ciiva.com/14186/usblc6-2-st-eng-tds-14186568.pdf?src-supplier=Distrelec; ComponentLink2Description: https://datasheet.ciiva.com/14186/usblc6-2-st-eng-tds-14186568.pdf?src-supplier=Distrelec; ComponentLink3URL: https://datasheet.ciiva.com/15143/getdatasheetpartid-98673-15143462.pdf?src-supplier=Verical; ComponentLink3Description: https://datasheet.ciiva.com/15143/getdatasheetpartid-98673-15143462.pdf?src-supplier=Verical; ComponentLink4URL: https://datasheet.ciiva.com/22685/1690354-22685832.pdf?src-supplier=Element14; ComponentLink4Description: https://datasheet.ciiva.com/22685/1690354-22685832.pdf?src-supplier=Element14; ComponentLink5URL: https://datasheet.ciiva.com/22692/1690354-22692453.pdf?src-supplier=Element14; ComponentLink5Description: https://datasheet.ciiva.com/22692/1690354-22692453.pdf?src-supplier=Element14; ComponentLink6URL: https://datasheet.ciiva.com/4508/cd00050750-4508892.pdf?src-supplier=Mouser; ComponentLink6Description: https://datasheet.ciiva.com/4508/cd00050750-4508892.pdf?src-supplier=Mouser; ComponentLink7URL: https://datasheet.ciiva.com/16378/cd00050750-16378714.pdf?src-supplier=Future+Electronics; ComponentLink7Description: https://datasheet.ciiva.com/16378/cd00050750-16378714.pdf?src-supplier=Future+Electronics; ComponentLink8URL: https://datasheet.ciiva.com/41444/001184108-da-01-en-ic-esd-protection-usblc6-2p6-sot-666-stm-41444134.pdf?src-supplier=Conrad; ComponentLink8Description: https://datasheet.ciiva.com/41444/001184108-da-01-en-ic-esd-protection-usblc6-2p6-sot-666-stm-41444134.pdf?src-supplier=Conrad
footprint SOT50P160X60-6N
pins: 1, 2, 3, 4, 5, 6 1